# Altium schematic symbol library WS-TASV.Schlib: 1 symbol
Pins are listed as number, name and electrical type; pins without a type are passive.

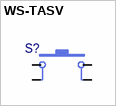
[diagram p0: symbol WS-TASV]

## WS-TASV
designator S?  (value not drawn)
pins: 1, 2, 3, 4